# Altium schematic symbol library jlcpcb_2025_04_resistors_extended_1812.schlib: 557 symbols (part 9 of 9)
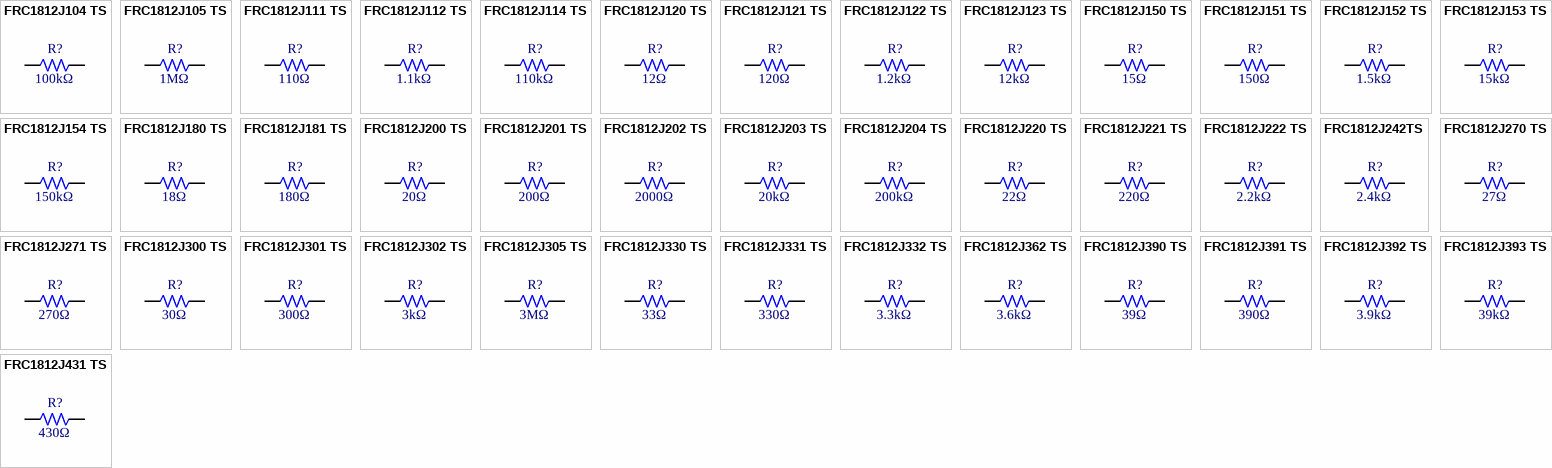
[diagram p21: symbols FRC1812J104 TS to FRC1812J431 TS]

## FRC1812J221 TS
designator R?  Resistance: 220Ω  (hidden comment: *)
Resistor, 220Ω, ±5%, 750mW, 200V, ±100ppm/℃, -55℃~+155℃, SMD 1812; Manufacturer: Uniroyal; Manufacturer Part Number: FRC1812J221 TS; Supplier 1: LCSC; Supplier Part Number 1: C2933938; JLCPCB Part Number: C2933938; Power Rating: 750mW; Category: Resistors; Package Size: 1812; JLCPCB Basic Part: Yes; Tolerance: ±5%; Voltage Rating: 200V; Temperature Coefficient: ±100ppm/℃; Temperature Rating: -55℃~+155℃; ComponentLink1Description: Datasheet; ComponentLink1URL: https://wmsc.lcsc.com/wmsc/upload/file/pdf/v2/lcsc/2308241947_FOJAN-FRC1812J221-TS_C2933938.pdf; ComponentLink2Description: JLCPCB Part URL; ComponentLink2URL: https://jlcpcb.com/partdetail/C2933938
pins: 1, 2
1 alternate drawing of the same symbol

## FRC1812J222 TS
designator R?  Resistance: 2.2kΩ  (hidden comment: *)
Resistor, 2.2kΩ, ±5%, 750mW, 200V, ±100ppm/℃, -55℃~+155℃, SMD 1812; Manufacturer: Uniroyal; Manufacturer Part Number: FRC1812J222 TS; Supplier 1: LCSC; Supplier Part Number 1: C2933939; JLCPCB Part Number: C2933939; Power Rating: 750mW; Category: Resistors; Package Size: 1812; JLCPCB Basic Part: Yes; Tolerance: ±5%; Voltage Rating: 200V; Temperature Coefficient: ±100ppm/℃; Temperature Rating: -55℃~+155℃; ComponentLink1Description: Datasheet; ComponentLink1URL: https://wmsc.lcsc.com/wmsc/upload/file/pdf/v2/lcsc/2308241947_FOJAN-FRC1812J222-TS_C2933939.pdf; ComponentLink2Description: JLCPCB Part URL; ComponentLink2URL: https://jlcpcb.com/partdetail/C2933939
pins: 1, 2
1 alternate drawing of the same symbol

## FRC1812J242TS
designator R?  Resistance: 2.4kΩ  (hidden comment: *)
Resistor, 2.4kΩ, ±5%, 750mW, 200V, ±100ppm/℃, SMD 1812; Manufacturer: Uniroyal; Manufacturer Part Number: FRC1812J242TS; Supplier 1: LCSC; Supplier Part Number 1: C3000697; JLCPCB Part Number: C3000697; Power Rating: 750mW; Category: Resistors; Package Size: 1812; JLCPCB Basic Part: Yes; Tolerance: ±5%; Voltage Rating: 200V; Temperature Coefficient: ±100ppm/℃; ComponentLink1Description: Datasheet; ComponentLink1URL: https://wmsc.lcsc.com/wmsc/upload/file/pdf/v2/lcsc/2308241947_FOJAN-FRC1812J242TS_C3000697.pdf; ComponentLink2Description: JLCPCB Part URL; ComponentLink2URL: https://jlcpcb.com/partdetail/C3000697
pins: 1, 2
1 alternate drawing of the same symbol

## FRC1812J270 TS
designator R?  Resistance: 27Ω  (hidden comment: *)
Resistor, 27Ω, ±5%, 750mW, 200V, ±100ppm/℃, -55℃~+155℃, SMD 1812; Manufacturer: Uniroyal; Manufacturer Part Number: FRC1812J270 TS; Supplier 1: LCSC; Supplier Part Number 1: C2933940; JLCPCB Part Number: C2933940; Power Rating: 750mW; Category: Resistors; Package Size: 1812; JLCPCB Basic Part: Yes; Tolerance: ±5%; Voltage Rating: 200V; Temperature Coefficient: ±100ppm/℃; Temperature Rating: -55℃~+155℃; ComponentLink1Description: Datasheet; ComponentLink1URL: https://wmsc.lcsc.com/wmsc/upload/file/pdf/v2/lcsc/2308241947_FOJAN-FRC1812J270-TS_C2933940.pdf; ComponentLink2Description: JLCPCB Part URL; ComponentLink2URL: https://jlcpcb.com/partdetail/C2933940
pins: 1, 2
1 alternate drawing of the same symbol

## FRC1812J271 TS
designator R?  Resistance: 270Ω  (hidden comment: *)
Resistor, 270Ω, ±5%, 750mW, 200V, ±100ppm/℃, -55℃~+155℃, SMD 1812; Manufacturer: Uniroyal; Manufacturer Part Number: FRC1812J271 TS; Supplier 1: LCSC; Supplier Part Number 1: C2933941; JLCPCB Part Number: C2933941; Power Rating: 750mW; Category: Resistors; Package Size: 1812; JLCPCB Basic Part: Yes; Tolerance: ±5%; Voltage Rating: 200V; Temperature Coefficient: ±100ppm/℃; Temperature Rating: -55℃~+155℃; ComponentLink1Description: Datasheet; ComponentLink1URL: https://wmsc.lcsc.com/wmsc/upload/file/pdf/v2/lcsc/2308241947_FOJAN-FRC1812J271-TS_C2933941.pdf; ComponentLink2Description: JLCPCB Part URL; ComponentLink2URL: https://jlcpcb.com/partdetail/C2933941
pins: 1, 2
1 alternate drawing of the same symbol

## FRC1812J300 TS
designator R?  Resistance: 30Ω  (hidden comment: *)
Resistor, 30Ω, ±5%, 750mW, 200V, ±100ppm/℃, -55℃~+155℃, SMD 1812; Manufacturer: Uniroyal; Manufacturer Part Number: FRC1812J300 TS; Supplier 1: LCSC; Supplier Part Number 1: C2933945; JLCPCB Part Number: C2933945; Power Rating: 750mW; Category: Resistors; Package Size: 1812; JLCPCB Basic Part: Yes; Tolerance: ±5%; Voltage Rating: 200V; Temperature Coefficient: ±100ppm/℃; Temperature Rating: -55℃~+155℃; ComponentLink1Description: Datasheet; ComponentLink1URL: https://wmsc.lcsc.com/wmsc/upload/file/pdf/v2/lcsc/2308241947_FOJAN-FRC1812J300-TS_C2933945.pdf; ComponentLink2Description: JLCPCB Part URL; ComponentLink2URL: https://jlcpcb.com/partdetail/C2933945
pins: 1, 2
1 alternate drawing of the same symbol

## FRC1812J301 TS
designator R?  Resistance: 300Ω  (hidden comment: *)
Resistor, 300Ω, ±5%, 750mW, 200V, ±100ppm/℃, -55℃~+155℃, SMD 1812; Manufacturer: Uniroyal; Manufacturer Part Number: FRC1812J301 TS; Supplier 1: LCSC; Supplier Part Number 1: C2933946; JLCPCB Part Number: C2933946; Power Rating: 750mW; Category: Resistors; Package Size: 1812; JLCPCB Basic Part: Yes; Tolerance: ±5%; Voltage Rating: 200V; Temperature Coefficient: ±100ppm/℃; Temperature Rating: -55℃~+155℃; ComponentLink1Description: Datasheet; ComponentLink1URL: https://wmsc.lcsc.com/wmsc/upload/file/pdf/v2/lcsc/2308241947_FOJAN-FRC1812J301-TS_C2933946.pdf; ComponentLink2Description: JLCPCB Part URL; ComponentLink2URL: https://jlcpcb.com/partdetail/C2933946
pins: 1, 2
1 alternate drawing of the same symbol

## FRC1812J302 TS
designator R?  Resistance: 3kΩ  (hidden comment: *)
Resistor, 3kΩ, ±5%, 750mW, 200V, ±100ppm/℃, -55℃~+155℃, SMD 1812; Manufacturer: Uniroyal; Manufacturer Part Number: FRC1812J302 TS; Supplier 1: LCSC; Supplier Part Number 1: C2933947; JLCPCB Part Number: C2933947; Power Rating: 750mW; Category: Resistors; Package Size: 1812; JLCPCB Basic Part: Yes; Tolerance: ±5%; Voltage Rating: 200V; Temperature Coefficient: ±100ppm/℃; Temperature Rating: -55℃~+155℃; ComponentLink1Description: Datasheet; ComponentLink1URL: https://wmsc.lcsc.com/wmsc/upload/file/pdf/v2/lcsc/2308241947_FOJAN-FRC1812J302-TS_C2933947.pdf; ComponentLink2Description: JLCPCB Part URL; ComponentLink2URL: https://jlcpcb.com/partdetail/C2933947
pins: 1, 2
1 alternate drawing of the same symbol

## FRC1812J305 TS
designator R?  Resistance: 3MΩ  (hidden comment: *)
Resistor, 3MΩ, ±5%, 750mW, 200V, ±100ppm/℃, SMD 1812; Manufacturer: Uniroyal; Manufacturer Part Number: FRC1812J305 TS; Supplier 1: LCSC; Supplier Part Number 1: C3013297; JLCPCB Part Number: C3013297; Power Rating: 750mW; Category: Resistors; Package Size: 1812; JLCPCB Basic Part: Yes; Tolerance: ±5%; Voltage Rating: 200V; Temperature Coefficient: ±100ppm/℃; ComponentLink1Description: Datasheet; ComponentLink1URL: https://wmsc.lcsc.com/wmsc/upload/file/pdf/v2/lcsc/2308241947_FOJAN-FRC1812J305-TS_C3013297.pdf; ComponentLink2Description: JLCPCB Part URL; ComponentLink2URL: https://jlcpcb.com/partdetail/C3013297
pins: 1, 2
1 alternate drawing of the same symbol

## FRC1812J330 TS
designator R?  Resistance: 33Ω  (hidden comment: *)
Resistor, 33Ω, ±5%, 750mW, 200V, ±100ppm/℃, -55℃~+155℃, SMD 1812; Manufacturer: Uniroyal; Manufacturer Part Number: FRC1812J330 TS; Supplier 1: LCSC; Supplier Part Number 1: C2933949; JLCPCB Part Number: C2933949; Power Rating: 750mW; Category: Resistors; Package Size: 1812; JLCPCB Basic Part: Yes; Tolerance: ±5%; Voltage Rating: 200V; Temperature Coefficient: ±100ppm/℃; Temperature Rating: -55℃~+155℃; ComponentLink1Description: Datasheet; ComponentLink1URL: https://wmsc.lcsc.com/wmsc/upload/file/pdf/v2/lcsc/2201251530_FOJAN-FRC1812J330-TS_C2933949.pdf; ComponentLink2Description: JLCPCB Part URL; ComponentLink2URL: https://jlcpcb.com/partdetail/C2933949
pins: 1, 2
1 alternate drawing of the same symbol

## FRC1812J331 TS
designator R?  Resistance: 330Ω  (hidden comment: *)
Resistor, 330Ω, ±5%, 750mW, 200V, ±100ppm/℃, -55℃~+155℃, SMD 1812; Manufacturer: Uniroyal; Manufacturer Part Number: FRC1812J331 TS; Supplier 1: LCSC; Supplier Part Number 1: C2933950; JLCPCB Part Number: C2933950; Power Rating: 750mW; Category: Resistors; Package Size: 1812; JLCPCB Basic Part: Yes; Tolerance: ±5%; Voltage Rating: 200V; Temperature Coefficient: ±100ppm/℃; Temperature Rating: -55℃~+155℃; ComponentLink1Description: Datasheet; ComponentLink1URL: https://wmsc.lcsc.com/wmsc/upload/file/pdf/v2/lcsc/2308241947_FOJAN-FRC1812J331-TS_C2933950.pdf; ComponentLink2Description: JLCPCB Part URL; ComponentLink2URL: https://jlcpcb.com/partdetail/C2933950
pins: 1, 2
1 alternate drawing of the same symbol

## FRC1812J332 TS
designator R?  Resistance: 3.3kΩ  (hidden comment: *)
Resistor, 3.3kΩ, ±5%, 750mW, 200V, ±100ppm/℃, -55℃~+155℃, SMD 1812; Manufacturer: Uniroyal; Manufacturer Part Number: FRC1812J332 TS; Supplier 1: LCSC; Supplier Part Number 1: C2933951; JLCPCB Part Number: C2933951; Power Rating: 750mW; Category: Resistors; Package Size: 1812; JLCPCB Basic Part: Yes; Tolerance: ±5%; Voltage Rating: 200V; Temperature Coefficient: ±100ppm/℃; Temperature Rating: -55℃~+155℃; ComponentLink1Description: Datasheet; ComponentLink1URL: https://wmsc.lcsc.com/wmsc/upload/file/pdf/v2/lcsc/2308241947_FOJAN-FRC1812J332-TS_C2933951.pdf; ComponentLink2Description: JLCPCB Part URL; ComponentLink2URL: https://jlcpcb.com/partdetail/C2933951
pins: 1, 2
1 alternate drawing of the same symbol

## FRC1812J362 TS
designator R?  Resistance: 3.6kΩ  (hidden comment: *)
Resistor, 3.6kΩ, ±5%, 750mW, 200V, ±100ppm/℃, -55℃~+155℃, SMD 1812; Manufacturer: Uniroyal; Manufacturer Part Number: FRC1812J362 TS; Supplier 1: LCSC; Supplier Part Number 1: C2974083; JLCPCB Part Number: C2974083; Power Rating: 750mW; Category: Resistors; Package Size: 1812; JLCPCB Basic Part: Yes; Tolerance: ±5%; Voltage Rating: 200V; Temperature Coefficient: ±100ppm/℃; Temperature Rating: -55℃~+155℃; ComponentLink1Description: Datasheet; ComponentLink1URL: https://wmsc.lcsc.com/wmsc/upload/file/pdf/v2/lcsc/2202151130_FOJAN-FRC1812J362-TS_C2974083.pdf; ComponentLink2Description: JLCPCB Part URL; ComponentLink2URL: https://jlcpcb.com/partdetail/C2974083
pins: 1, 2
1 alternate drawing of the same symbol

## FRC1812J390 TS
designator R?  Resistance: 39Ω  (hidden comment: *)
Resistor, 39Ω, ±5%, 750mW, 200V, ±100ppm/℃, -55℃~+155℃, SMD 1812; Manufacturer: Uniroyal; Manufacturer Part Number: FRC1812J390 TS; Supplier 1: LCSC; Supplier Part Number 1: C2933954; JLCPCB Part Number: C2933954; Power Rating: 750mW; Category: Resistors; Package Size: 1812; JLCPCB Basic Part: Yes; Tolerance: ±5%; Voltage Rating: 200V; Temperature Coefficient: ±100ppm/℃; Temperature Rating: -55℃~+155℃; ComponentLink1Description: Datasheet; ComponentLink1URL: https://wmsc.lcsc.com/wmsc/upload/file/pdf/v2/lcsc/2308241947_FOJAN-FRC1812J390-TS_C2933954.pdf; ComponentLink2Description: JLCPCB Part URL; ComponentLink2URL: https://jlcpcb.com/partdetail/C2933954
pins: 1, 2
1 alternate drawing of the same symbol

## FRC1812J391 TS
designator R?  Resistance: 390Ω  (hidden comment: *)
Resistor, 390Ω, ±5%, 750mW, 200V, ±100ppm/℃, -55℃~+155℃, SMD 1812; Manufacturer: Uniroyal; Manufacturer Part Number: FRC1812J391 TS; Supplier 1: LCSC; Supplier Part Number 1: C2933955; JLCPCB Part Number: C2933955; Power Rating: 750mW; Category: Resistors; Package Size: 1812; JLCPCB Basic Part: Yes; Tolerance: ±5%; Voltage Rating: 200V; Temperature Coefficient: ±100ppm/℃; Temperature Rating: -55℃~+155℃; ComponentLink1Description: Datasheet; ComponentLink1URL: https://wmsc.lcsc.com/wmsc/upload/file/pdf/v2/lcsc/2308241947_FOJAN-FRC1812J391-TS_C2933955.pdf; ComponentLink2Description: JLCPCB Part URL; ComponentLink2URL: https://jlcpcb.com/partdetail/C2933955
pins: 1, 2
1 alternate drawing of the same symbol

## FRC1812J392 TS
designator R?  Resistance: 3.9kΩ  (hidden comment: *)
Resistor, 3.9kΩ, ±5%, 750mW, 200V, ±100ppm/℃, -55℃~+155℃, SMD 1812; Manufacturer: Uniroyal; Manufacturer Part Number: FRC1812J392 TS; Supplier 1: LCSC; Supplier Part Number 1: C2933956; JLCPCB Part Number: C2933956; Power Rating: 750mW; Category: Resistors; Package Size: 1812; JLCPCB Basic Part: Yes; Tolerance: ±5%; Voltage Rating: 200V; Temperature Coefficient: ±100ppm/℃; Temperature Rating: -55℃~+155℃; ComponentLink1Description: Datasheet; ComponentLink1URL: https://wmsc.lcsc.com/wmsc/upload/file/pdf/v2/lcsc/2308241947_FOJAN-FRC1812J392-TS_C2933956.pdf; ComponentLink2Description: JLCPCB Part URL; ComponentLink2URL: https://jlcpcb.com/partdetail/C2933956
pins: 1, 2
1 alternate drawing of the same symbol

## FRC1812J393 TS
designator R?  Resistance: 39kΩ  (hidden comment: *)
Resistor, 39kΩ, ±5%, 750mW, 200V, ±100ppm/℃, -55℃~+155℃, SMD 1812; Manufacturer: Uniroyal; Manufacturer Part Number: FRC1812J393 TS; Supplier 1: LCSC; Supplier Part Number 1: C2960906; JLCPCB Part Number: C2960906; Power Rating: 750mW; Category: Resistors; Package Size: 1812; JLCPCB Basic Part: Yes; Tolerance: ±5%; Voltage Rating: 200V; Temperature Coefficient: ±100ppm/℃; Temperature Rating: -55℃~+155℃; ComponentLink1Description: Datasheet; ComponentLink1URL: https://wmsc.lcsc.com/wmsc/upload/file/pdf/v2/lcsc/2308241947_FOJAN-FRC1812J393-TS_C2960906.pdf; ComponentLink2Description: JLCPCB Part URL; ComponentLink2URL: https://jlcpcb.com/partdetail/C2960906
pins: 1, 2
1 alternate drawing of the same symbol

## FRC1812J431 TS
designator R?  Resistance: 430Ω  (hidden comment: *)
Resistor, 430Ω, ±5%, 750mW, 200V, ±100ppm/℃, -55℃~+155℃, SMD 1812; Manufacturer: Uniroyal; Manufacturer Part Number: FRC1812J431 TS; Supplier 1: LCSC; Supplier Part Number 1: C2933958; JLCPCB Part Number: C2933958; Power Rating: 750mW; Category: Resistors; Package Size: 1812; JLCPCB Basic Part: Yes; Tolerance: ±5%; Voltage Rating: 200V; Temperature Coefficient: ±100ppm/℃; Temperature Rating: -55℃~+155℃; ComponentLink1Description: Datasheet; ComponentLink1URL: https://wmsc.lcsc.com/wmsc/upload/file/pdf/v2/lcsc/2308241947_FOJAN-FRC1812J431-TS_C2933958.pdf; ComponentLink2Description: JLCPCB Part URL; ComponentLink2URL: https://jlcpcb.com/partdetail/C2933958
pins: 1, 2
1 alternate drawing of the same symbol

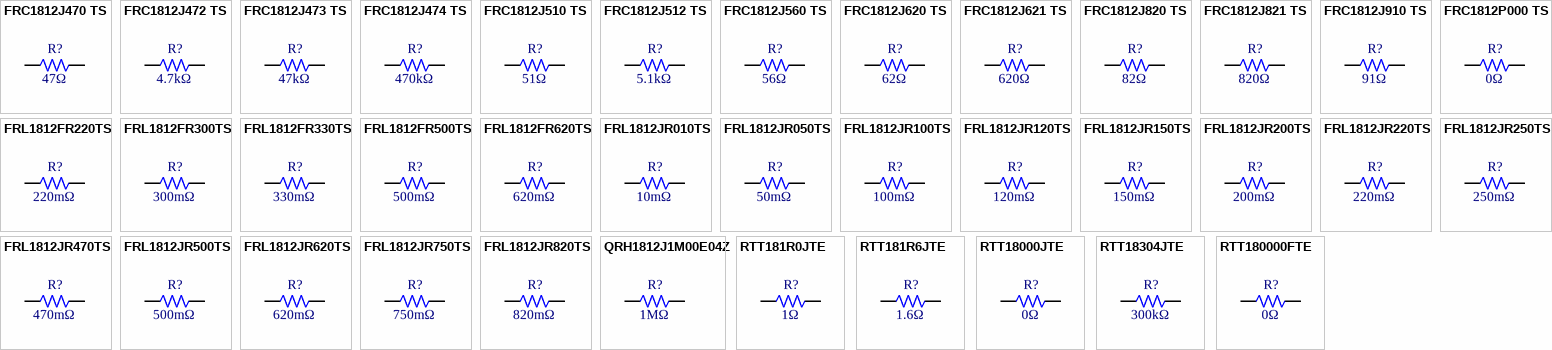
[diagram p13: symbols FRC1812J470 TS to RTT180000FTE]

## FRC1812J470 TS
designator R?  Resistance: 47Ω  (hidden comment: *)
Resistor, 47Ω, ±5%, 750mW, 200V, ±100ppm/℃, -55℃~+155℃, SMD 1812; Manufacturer: Uniroyal; Manufacturer Part Number: FRC1812J470 TS; Supplier 1: LCSC; Supplier Part Number 1: C2933959; JLCPCB Part Number: C2933959; Power Rating: 750mW; Category: Resistors; Package Size: 1812; JLCPCB Basic Part: Yes; Tolerance: ±5%; Voltage Rating: 200V; Temperature Coefficient: ±100ppm/℃; Temperature Rating: -55℃~+155℃; ComponentLink1Description: Datasheet; ComponentLink1URL: https://wmsc.lcsc.com/wmsc/upload/file/pdf/v2/lcsc/2308241947_FOJAN-FRC1812J470-TS_C2933959.pdf; ComponentLink2Description: JLCPCB Part URL; ComponentLink2URL: https://jlcpcb.com/partdetail/C2933959
pins: 1, 2
1 alternate drawing of the same symbol

## FRC1812J472 TS
designator R?  Resistance: 4.7kΩ  (hidden comment: *)
Resistor, 4.7kΩ, ±5%, 750mW, 200V, ±100ppm/℃, -55℃~+155℃, SMD 1812; Manufacturer: Uniroyal; Manufacturer Part Number: FRC1812J472 TS; Supplier 1: LCSC; Supplier Part Number 1: C2933961; JLCPCB Part Number: C2933961; Power Rating: 750mW; Category: Resistors; Package Size: 1812; JLCPCB Basic Part: Yes; Tolerance: ±5%; Voltage Rating: 200V; Temperature Coefficient: ±100ppm/℃; Temperature Rating: -55℃~+155℃; ComponentLink1Description: Datasheet; ComponentLink1URL: https://wmsc.lcsc.com/wmsc/upload/file/pdf/v2/lcsc/2308241947_FOJAN-FRC1812J472-TS_C2933961.pdf; ComponentLink2Description: JLCPCB Part URL; ComponentLink2URL: https://jlcpcb.com/partdetail/C2933961
pins: 1, 2
1 alternate drawing of the same symbol

## FRC1812J473 TS
designator R?  Resistance: 47kΩ  (hidden comment: *)
Resistor, 47kΩ, ±5%, 750mW, 200V, ±100ppm/℃, -55℃~+155℃, SMD 1812; Manufacturer: Uniroyal; Manufacturer Part Number: FRC1812J473 TS; Supplier 1: LCSC; Supplier Part Number 1: C2933962; JLCPCB Part Number: C2933962; Power Rating: 750mW; Category: Resistors; Package Size: 1812; JLCPCB Basic Part: Yes; Tolerance: ±5%; Voltage Rating: 200V; Temperature Coefficient: ±100ppm/℃; Temperature Rating: -55℃~+155℃; ComponentLink1Description: Datasheet; ComponentLink1URL: https://wmsc.lcsc.com/wmsc/upload/file/pdf/v2/lcsc/2308241947_FOJAN-FRC1812J473-TS_C2933962.pdf; ComponentLink2Description: JLCPCB Part URL; ComponentLink2URL: https://jlcpcb.com/partdetail/C2933962
pins: 1, 2
1 alternate drawing of the same symbol

## FRC1812J474 TS
designator R?  Resistance: 470kΩ  (hidden comment: *)
Resistor, 470kΩ, ±5%, 750mW, 200V, ±100ppm/℃, -55℃~+155℃, SMD 1812; Manufacturer: Uniroyal; Manufacturer Part Number: FRC1812J474 TS; Supplier 1: LCSC; Supplier Part Number 1: C2960896; JLCPCB Part Number: C2960896; Power Rating: 750mW; Category: Resistors; Package Size: 1812; JLCPCB Basic Part: Yes; Tolerance: ±5%; Voltage Rating: 200V; Temperature Coefficient: ±100ppm/℃; Temperature Rating: -55℃~+155℃; ComponentLink1Description: Datasheet; ComponentLink1URL: https://wmsc.lcsc.com/wmsc/upload/file/pdf/v2/lcsc/2308241947_FOJAN-FRC1812J474-TS_C2960896.pdf; ComponentLink2Description: JLCPCB Part URL; ComponentLink2URL: https://jlcpcb.com/partdetail/C2960896
pins: 1, 2
1 alternate drawing of the same symbol

## FRC1812J510 TS
designator R?  Resistance: 51Ω  (hidden comment: *)
Resistor, 51Ω, ±5%, 750mW, 200V, ±100ppm/℃, -55℃~+155℃, SMD 1812; Manufacturer: Uniroyal; Manufacturer Part Number: FRC1812J510 TS; Supplier 1: LCSC; Supplier Part Number 1: C2933964; JLCPCB Part Number: C2933964; Power Rating: 750mW; Category: Resistors; Package Size: 1812; JLCPCB Basic Part: Yes; Tolerance: ±5%; Voltage Rating: 200V; Temperature Coefficient: ±100ppm/℃; Temperature Rating: -55℃~+155℃; ComponentLink1Description: Datasheet; ComponentLink1URL: https://wmsc.lcsc.com/wmsc/upload/file/pdf/v2/lcsc/2308241947_FOJAN-FRC1812J510-TS_C2933964.pdf; ComponentLink2Description: JLCPCB Part URL; ComponentLink2URL: https://jlcpcb.com/partdetail/C2933964
pins: 1, 2
1 alternate drawing of the same symbol

## FRC1812J512 TS
designator R?  Resistance: 5.1kΩ  (hidden comment: *)
Resistor, 5.1kΩ, ±5%, 750mW, 200V, ±100ppm/℃, -55℃~+155℃, SMD 1812; Manufacturer: Uniroyal; Manufacturer Part Number: FRC1812J512 TS; Supplier 1: LCSC; Supplier Part Number 1: C2933965; JLCPCB Part Number: C2933965; Power Rating: 750mW; Category: Resistors; Package Size: 1812; JLCPCB Basic Part: Yes; Tolerance: ±5%; Voltage Rating: 200V; Temperature Coefficient: ±100ppm/℃; Temperature Rating: -55℃~+155℃; ComponentLink1Description: Datasheet; ComponentLink1URL: https://wmsc.lcsc.com/wmsc/upload/file/pdf/v2/lcsc/2308241947_FOJAN-FRC1812J512-TS_C2933965.pdf; ComponentLink2Description: JLCPCB Part URL; ComponentLink2URL: https://jlcpcb.com/partdetail/C2933965
pins: 1, 2
1 alternate drawing of the same symbol

## FRC1812J560 TS
designator R?  Resistance: 56Ω  (hidden comment: *)
Resistor, 56Ω, ±5%, 750mW, 200V, ±100ppm/℃, -55℃~+155℃, SMD 1812; Manufacturer: Uniroyal; Manufacturer Part Number: FRC1812J560 TS; Supplier 1: LCSC; Supplier Part Number 1: C2933966; JLCPCB Part Number: C2933966; Power Rating: 750mW; Category: Resistors; Package Size: 1812; JLCPCB Basic Part: Yes; Tolerance: ±5%; Voltage Rating: 200V; Temperature Coefficient: ±100ppm/℃; Temperature Rating: -55℃~+155℃; ComponentLink1Description: Datasheet; ComponentLink1URL: https://wmsc.lcsc.com/wmsc/upload/file/pdf/v2/lcsc/2308241947_FOJAN-FRC1812J560-TS_C2933966.pdf; ComponentLink2Description: JLCPCB Part URL; ComponentLink2URL: https://jlcpcb.com/partdetail/C2933966
pins: 1, 2
1 alternate drawing of the same symbol

## FRC1812J620 TS
designator R?  Resistance: 62Ω  (hidden comment: *)
Resistor, 62Ω, ±5%, 750mW, 200V, ±100ppm/℃, -55℃~+155℃, SMD 1812; Manufacturer: Uniroyal; Manufacturer Part Number: FRC1812J620 TS; Supplier 1: LCSC; Supplier Part Number 1: C2933970; JLCPCB Part Number: C2933970; Power Rating: 750mW; Category: Resistors; Package Size: 1812; JLCPCB Basic Part: Yes; Tolerance: ±5%; Voltage Rating: 200V; Temperature Coefficient: ±100ppm/℃; Temperature Rating: -55℃~+155℃; ComponentLink1Description: Datasheet; ComponentLink1URL: https://wmsc.lcsc.com/wmsc/upload/file/pdf/v2/lcsc/2308241947_FOJAN-FRC1812J620-TS_C2933970.pdf; ComponentLink2Description: JLCPCB Part URL; ComponentLink2URL: https://jlcpcb.com/partdetail/C2933970
pins: 1, 2
1 alternate drawing of the same symbol

## FRC1812J621 TS
designator R?  Resistance: 620Ω  (hidden comment: *)
Resistor, 620Ω, ±5%, 750mW, 200V, ±100ppm/℃, -55℃~+155℃, SMD 1812; Manufacturer: Uniroyal; Manufacturer Part Number: FRC1812J621 TS; Supplier 1: LCSC; Supplier Part Number 1: C2933971; JLCPCB Part Number: C2933971; Power Rating: 750mW; Category: Resistors; Package Size: 1812; JLCPCB Basic Part: Yes; Tolerance: ±5%; Voltage Rating: 200V; Temperature Coefficient: ±100ppm/℃; Temperature Rating: -55℃~+155℃; ComponentLink1Description: Datasheet; ComponentLink1URL: https://wmsc.lcsc.com/wmsc/upload/file/pdf/v2/lcsc/2308241947_FOJAN-FRC1812J621-TS_C2933971.pdf; ComponentLink2Description: JLCPCB Part URL; ComponentLink2URL: https://jlcpcb.com/partdetail/C2933971
pins: 1, 2
1 alternate drawing of the same symbol

## FRC1812J820 TS
designator R?  Resistance: 82Ω  (hidden comment: *)
Resistor, 82Ω, ±5%, 750mW, 200V, ±100ppm/℃, -55℃~+155℃, SMD 1812; Manufacturer: Uniroyal; Manufacturer Part Number: FRC1812J820 TS; Supplier 1: LCSC; Supplier Part Number 1: C2960910; JLCPCB Part Number: C2960910; Power Rating: 750mW; Category: Resistors; Package Size: 1812; JLCPCB Basic Part: Yes; Tolerance: ±5%; Voltage Rating: 200V; Temperature Coefficient: ±100ppm/℃; Temperature Rating: -55℃~+155℃; ComponentLink1Description: Datasheet; ComponentLink1URL: https://wmsc.lcsc.com/wmsc/upload/file/pdf/v2/lcsc/2308241947_FOJAN-FRC1812J820-TS_C2960910.pdf; ComponentLink2Description: JLCPCB Part URL; ComponentLink2URL: https://jlcpcb.com/partdetail/C2960910
pins: 1, 2
1 alternate drawing of the same symbol

## FRC1812J821 TS
designator R?  Resistance: 820Ω  (hidden comment: *)
Resistor, 820Ω, ±5%, 750mW, 200V, ±100ppm/℃, -55℃~+155℃, SMD 1812; Manufacturer: Uniroyal; Manufacturer Part Number: FRC1812J821 TS; Supplier 1: LCSC; Supplier Part Number 1: C2933975; JLCPCB Part Number: C2933975; Power Rating: 750mW; Category: Resistors; Package Size: 1812; JLCPCB Basic Part: Yes; Tolerance: ±5%; Voltage Rating: 200V; Temperature Coefficient: ±100ppm/℃; Temperature Rating: -55℃~+155℃; ComponentLink1Description: Datasheet; ComponentLink1URL: https://wmsc.lcsc.com/wmsc/upload/file/pdf/v2/lcsc/2308241947_FOJAN-FRC1812J821-TS_C2933975.pdf; ComponentLink2Description: JLCPCB Part URL; ComponentLink2URL: https://jlcpcb.com/partdetail/C2933975
pins: 1, 2
1 alternate drawing of the same symbol

## FRC1812J910 TS
designator R?  Resistance: 91Ω  (hidden comment: *)
Resistor, 91Ω, ±5%, 750mW, 200V, ±100ppm/℃, SMD 1812; Manufacturer: Uniroyal; Manufacturer Part Number: FRC1812J910 TS; Supplier 1: LCSC; Supplier Part Number 1: C5713358; JLCPCB Part Number: C5713358; Power Rating: 750mW; Category: Resistors; Package Size: 1812; JLCPCB Basic Part: Yes; Tolerance: ±5%; Voltage Rating: 200V; Temperature Coefficient: ±100ppm/℃; ComponentLink1Description: Datasheet; ComponentLink1URL: https://wmsc.lcsc.com/wmsc/upload/file/pdf/v2/lcsc/2308241947_FOJAN-FRC1812J910-TS_C5713358.pdf; ComponentLink2Description: JLCPCB Part URL; ComponentLink2URL: https://jlcpcb.com/partdetail/C5713358
pins: 1, 2
1 alternate drawing of the same symbol

## FRC1812P000 TS
designator R?  Resistance: 0Ω  (hidden comment: *)
Resistor, 0Ω, -55℃~+155℃, SMD 1812; Manufacturer: Uniroyal; Manufacturer Part Number: FRC1812P000 TS; Supplier 1: LCSC; Supplier Part Number 1: C2907555; JLCPCB Part Number: C2907555; Category: Resistors; Package Size: 1812; JLCPCB Basic Part: Yes; Temperature Rating: -55℃~+155℃; ComponentLink1Description: Datasheet; ComponentLink1URL: https://wmsc.lcsc.com/wmsc/upload/file/pdf/v2/lcsc/2308241947_FOJAN-FRC1812P000-TS_C2907555.pdf; ComponentLink2Description: JLCPCB Part URL; ComponentLink2URL: https://jlcpcb.com/partdetail/C2907555
pins: 1, 2
1 alternate drawing of the same symbol

## FRL1812FR220TS
designator R?  Resistance: 220mΩ  (hidden comment: *)
Resistor, 220mΩ, ±1%, 750mW, ±300ppm/℃, SMD 1812; Manufacturer: Uniroyal; Manufacturer Part Number: FRL1812FR220TS; Supplier 1: LCSC; Supplier Part Number 1: C3000761; JLCPCB Part Number: C3000761; Power Rating: 750mW; Category: Resistors; Package Size: 1812; JLCPCB Basic Part: Yes; Tolerance: ±1%; Temperature Coefficient: ±300ppm/℃; ComponentLink1Description: Datasheet; ComponentLink1URL: https://wmsc.lcsc.com/wmsc/upload/file/pdf/v2/lcsc/2308241947_FOJAN-FRL1812FR220TS_C3000761.pdf; ComponentLink2Description: JLCPCB Part URL; ComponentLink2URL: https://jlcpcb.com/partdetail/C3000761
pins: 1, 2
1 alternate drawing of the same symbol

## FRL1812FR300TS
designator R?  Resistance: 300mΩ  (hidden comment: *)
Resistor, 300mΩ, ±1%, 750mW, ±300ppm/℃, SMD 1812; Manufacturer: Uniroyal; Manufacturer Part Number: FRL1812FR300TS; Supplier 1: LCSC; Supplier Part Number 1: C5159748; JLCPCB Part Number: C5159748; Power Rating: 750mW; Category: Resistors; Package Size: 1812; JLCPCB Basic Part: Yes; Tolerance: ±1%; Temperature Coefficient: ±300ppm/℃; ComponentLink1Description: Datasheet; ComponentLink1URL: https://wmsc.lcsc.com/wmsc/upload/file/pdf/v2/lcsc/2308241947_FOJAN-FRL1812FR300TS_C5159748.pdf; ComponentLink2Description: JLCPCB Part URL; ComponentLink2URL: https://jlcpcb.com/partdetail/C5159748
pins: 1, 2
1 alternate drawing of the same symbol

## FRL1812FR330TS
designator R?  Resistance: 330mΩ  (hidden comment: *)
Resistor, 330mΩ, ±1%, ±300ppm/℃, SMD 1812; Manufacturer: Uniroyal; Manufacturer Part Number: FRL1812FR330TS; Supplier 1: LCSC; Supplier Part Number 1: C3013361; JLCPCB Part Number: C3013361; Category: Resistors; Package Size: 1812; JLCPCB Basic Part: Yes; Tolerance: ±1%; Temperature Coefficient: ±300ppm/℃; ComponentLink1Description: Datasheet; ComponentLink1URL: https://wmsc.lcsc.com/wmsc/upload/file/pdf/v2/lcsc/2308241947_FOJAN-FRL1812FR330TS_C3013361.pdf; ComponentLink2Description: JLCPCB Part URL; ComponentLink2URL: https://jlcpcb.com/partdetail/C3013361
pins: 1, 2
1 alternate drawing of the same symbol

## FRL1812FR500TS
designator R?  Resistance: 500mΩ  (hidden comment: *)
Resistor, 500mΩ, ±1%, 750mW, 200V, ±300ppm/℃, -55℃~+155℃, SMD 1812; Manufacturer: Uniroyal; Manufacturer Part Number: FRL1812FR500TS; Supplier 1: LCSC; Supplier Part Number 1: C2934342; JLCPCB Part Number: C2934342; Power Rating: 750mW; Category: Resistors; Package Size: 1812; JLCPCB Basic Part: Yes; Tolerance: ±1%; Voltage Rating: 200V; Temperature Coefficient: ±300ppm/℃; Temperature Rating: -55℃~+155℃; ComponentLink1Description: Datasheet; ComponentLink1URL: https://wmsc.lcsc.com/wmsc/upload/file/pdf/v2/lcsc/2308241947_FOJAN-FRL1812FR500TS_C2934342.pdf; ComponentLink2Description: JLCPCB Part URL; ComponentLink2URL: https://jlcpcb.com/partdetail/C2934342
pins: 1, 2
1 alternate drawing of the same symbol

## FRL1812FR620TS
designator R?  Resistance: 620mΩ  (hidden comment: *)
Resistor, 620mΩ, ±1%, 750mW, 200V, ±200ppm/℃, -55℃~+155℃, SMD 1812; Manufacturer: Uniroyal; Manufacturer Part Number: FRL1812FR620TS; Supplier 1: LCSC; Supplier Part Number 1: C2934343; JLCPCB Part Number: C2934343; Power Rating: 750mW; Category: Resistors; Package Size: 1812; JLCPCB Basic Part: Yes; Tolerance: ±1%; Voltage Rating: 200V; Temperature Coefficient: ±200ppm/℃; Temperature Rating: -55℃~+155℃; ComponentLink1Description: Datasheet; ComponentLink1URL: https://wmsc.lcsc.com/wmsc/upload/file/pdf/v2/lcsc/2308241947_FOJAN-FRL1812FR620TS_C2934343.pdf; ComponentLink2Description: JLCPCB Part URL; ComponentLink2URL: https://jlcpcb.com/partdetail/C2934343
pins: 1, 2
1 alternate drawing of the same symbol

## FRL1812JR010TS
designator R?  Resistance: 10mΩ  (hidden comment: *)
Resistor, 10mΩ, ±5%, 750mW, SMD 1812; Manufacturer: Uniroyal; Manufacturer Part Number: FRL1812JR010TS; Supplier 1: LCSC; Supplier Part Number 1: C7467399; JLCPCB Part Number: C7467399; Power Rating: 750mW; Category: Resistors; Package Size: 1812; JLCPCB Basic Part: Yes; Tolerance: ±5%; ComponentLink1Description: Datasheet; ComponentLink1URL: https://wmsc.lcsc.com/wmsc/upload/file/pdf/v2/lcsc/2308241947_FOJAN-FRL1812JR010TS_C7467399.pdf; ComponentLink2Description: JLCPCB Part URL; ComponentLink2URL: https://jlcpcb.com/partdetail/C7467399
pins: 1, 2
1 alternate drawing of the same symbol

## FRL1812JR050TS
designator R?  Resistance: 50mΩ  (hidden comment: *)
Resistor, 50mΩ, ±5%, SMD 1812; Manufacturer: Uniroyal; Manufacturer Part Number: FRL1812JR050TS; Supplier 1: LCSC; Supplier Part Number 1: C3013363; JLCPCB Part Number: C3013363; Category: Resistors; Package Size: 1812; JLCPCB Basic Part: Yes; Tolerance: ±5%; ComponentLink1Description: Datasheet; ComponentLink1URL: https://wmsc.lcsc.com/wmsc/upload/file/pdf/v2/lcsc/2308241947_FOJAN-FRL1812JR050TS_C3013363.pdf; ComponentLink2Description: JLCPCB Part URL; ComponentLink2URL: https://jlcpcb.com/partdetail/C3013363
pins: 1, 2
1 alternate drawing of the same symbol

## FRL1812JR100TS
designator R?  Resistance: 100mΩ  (hidden comment: *)
Resistor, 100mΩ, ±5%, 750mW, 200V, ±600ppm/℃, -55℃~+155℃, SMD 1812; Manufacturer: Uniroyal; Manufacturer Part Number: FRL1812JR100TS; Supplier 1: LCSC; Supplier Part Number 1: C2960717; JLCPCB Part Number: C2960717; Power Rating: 750mW; Category: Resistors; Package Size: 1812; JLCPCB Basic Part: Yes; Tolerance: ±5%; Voltage Rating: 200V; Temperature Coefficient: ±600ppm/℃; Temperature Rating: -55℃~+155℃; ComponentLink1Description: Datasheet; ComponentLink1URL: https://wmsc.lcsc.com/wmsc/upload/file/pdf/v2/lcsc/2201181800_FOJAN-FRL1812JR100TS_C2960717.pdf; ComponentLink2Description: JLCPCB Part URL; ComponentLink2URL: https://jlcpcb.com/partdetail/C2960717
pins: 1, 2
1 alternate drawing of the same symbol

## FRL1812JR120TS
designator R?  Resistance: 120mΩ  (hidden comment: *)
Resistor, 120mΩ, ±5%, 750mW, 200V, ±600ppm/℃, -55℃~+155℃, SMD 1812; Manufacturer: Uniroyal; Manufacturer Part Number: FRL1812JR120TS; Supplier 1: LCSC; Supplier Part Number 1: C2934344; JLCPCB Part Number: C2934344; Power Rating: 750mW; Category: Resistors; Package Size: 1812; JLCPCB Basic Part: Yes; Tolerance: ±5%; Voltage Rating: 200V; Temperature Coefficient: ±600ppm/℃; Temperature Rating: -55℃~+155℃; ComponentLink1Description: Datasheet; ComponentLink1URL: https://wmsc.lcsc.com/wmsc/upload/file/pdf/v2/lcsc/2308241947_FOJAN-FRL1812JR120TS_C2934344.pdf; ComponentLink2Description: JLCPCB Part URL; ComponentLink2URL: https://jlcpcb.com/partdetail/C2934344
pins: 1, 2
1 alternate drawing of the same symbol

## FRL1812JR150TS
designator R?  Resistance: 150mΩ  (hidden comment: *)
Resistor, 150mΩ, ±5%, 750mW, 200V, ±600ppm/℃, -55℃~+155℃, SMD 1812; Manufacturer: Uniroyal; Manufacturer Part Number: FRL1812JR150TS; Supplier 1: LCSC; Supplier Part Number 1: C2934345; JLCPCB Part Number: C2934345; Power Rating: 750mW; Category: Resistors; Package Size: 1812; JLCPCB Basic Part: Yes; Tolerance: ±5%; Voltage Rating: 200V; Temperature Coefficient: ±600ppm/℃; Temperature Rating: -55℃~+155℃; ComponentLink1Description: Datasheet; ComponentLink1URL: https://wmsc.lcsc.com/wmsc/upload/file/pdf/v2/lcsc/2308241947_FOJAN-FRL1812JR150TS_C2934345.pdf; ComponentLink2Description: JLCPCB Part URL; ComponentLink2URL: https://jlcpcb.com/partdetail/C2934345
pins: 1, 2
1 alternate drawing of the same symbol

## FRL1812JR200TS
designator R?  Resistance: 200mΩ  (hidden comment: *)
Resistor, 200mΩ, ±5%, 750mW, 200V, ±600ppm/℃, -55℃~+155℃, SMD 1812; Manufacturer: Uniroyal; Manufacturer Part Number: FRL1812JR200TS; Supplier 1: LCSC; Supplier Part Number 1: C2930452; JLCPCB Part Number: C2930452; Power Rating: 750mW; Category: Resistors; Package Size: 1812; JLCPCB Basic Part: Yes; Tolerance: ±5%; Voltage Rating: 200V; Temperature Coefficient: ±600ppm/℃; Temperature Rating: -55℃~+155℃; ComponentLink1Description: Datasheet; ComponentLink1URL: https://wmsc.lcsc.com/wmsc/upload/file/pdf/v2/lcsc/2308241947_FOJAN-FRL1812JR200TS_C2930452.pdf; ComponentLink2Description: JLCPCB Part URL; ComponentLink2URL: https://jlcpcb.com/partdetail/C2930452
pins: 1, 2
1 alternate drawing of the same symbol

## FRL1812JR220TS
designator R?  Resistance: 220mΩ  (hidden comment: *)
Resistor, 220mΩ, ±5%, 750mW, 200V, ±300ppm/℃, -55℃~+155℃, SMD 1812; Manufacturer: Uniroyal; Manufacturer Part Number: FRL1812JR220TS; Supplier 1: LCSC; Supplier Part Number 1: C2934347; JLCPCB Part Number: C2934347; Power Rating: 750mW; Category: Resistors; Package Size: 1812; JLCPCB Basic Part: Yes; Tolerance: ±5%; Voltage Rating: 200V; Temperature Coefficient: ±300ppm/℃; Temperature Rating: -55℃~+155℃; ComponentLink1Description: Datasheet; ComponentLink1URL: https://wmsc.lcsc.com/wmsc/upload/file/pdf/v2/lcsc/2308241947_FOJAN-FRL1812JR220TS_C2934347.pdf; ComponentLink2Description: JLCPCB Part URL; ComponentLink2URL: https://jlcpcb.com/partdetail/C2934347
pins: 1, 2
1 alternate drawing of the same symbol

## FRL1812JR250TS
designator R?  Resistance: 250mΩ  (hidden comment: *)
Resistor, 250mΩ, ±5%, 750mW, 200V, ±200ppm/℃, -55℃~+155℃, SMD 1812; Manufacturer: Uniroyal; Manufacturer Part Number: FRL1812JR250TS; Supplier 1: LCSC; Supplier Part Number 1: C2934348; JLCPCB Part Number: C2934348; Power Rating: 750mW; Category: Resistors; Package Size: 1812; JLCPCB Basic Part: Yes; Tolerance: ±5%; Voltage Rating: 200V; Temperature Coefficient: ±200ppm/℃; Temperature Rating: -55℃~+155℃; ComponentLink1Description: Datasheet; ComponentLink1URL: https://wmsc.lcsc.com/wmsc/upload/file/pdf/v2/lcsc/2308241947_FOJAN-FRL1812JR250TS_C2934348.pdf; ComponentLink2Description: JLCPCB Part URL; ComponentLink2URL: https://jlcpcb.com/partdetail/C2934348
pins: 1, 2
1 alternate drawing of the same symbol

## FRL1812JR470TS
designator R?  Resistance: 470mΩ  (hidden comment: *)
Resistor, 470mΩ, ±5%, 750mW, ±300ppm/℃, SMD 1812; Manufacturer: Uniroyal; Manufacturer Part Number: FRL1812JR470TS; Supplier 1: LCSC; Supplier Part Number 1: C3013365; JLCPCB Part Number: C3013365; Power Rating: 750mW; Category: Resistors; Package Size: 1812; JLCPCB Basic Part: Yes; Tolerance: ±5%; Temperature Coefficient: ±300ppm/℃; ComponentLink1Description: Datasheet; ComponentLink1URL: https://wmsc.lcsc.com/wmsc/upload/file/pdf/v2/lcsc/2308241947_FOJAN-FRL1812JR470TS_C3013365.pdf; ComponentLink2Description: JLCPCB Part URL; ComponentLink2URL: https://jlcpcb.com/partdetail/C3013365
pins: 1, 2
1 alternate drawing of the same symbol

## FRL1812JR500TS
designator R?  Resistance: 500mΩ  (hidden comment: *)
Resistor, 500mΩ, ±5%, 750mW, ±300ppm/℃, SMD 1812; Manufacturer: Uniroyal; Manufacturer Part Number: FRL1812JR500TS; Supplier 1: LCSC; Supplier Part Number 1: C3000571; JLCPCB Part Number: C3000571; Power Rating: 750mW; Category: Resistors; Package Size: 1812; JLCPCB Basic Part: Yes; Tolerance: ±5%; Temperature Coefficient: ±300ppm/℃; ComponentLink1Description: Datasheet; ComponentLink1URL: https://wmsc.lcsc.com/wmsc/upload/file/pdf/v2/lcsc/2308241947_FOJAN-FRL1812JR500TS_C3000571.pdf; ComponentLink2Description: JLCPCB Part URL; ComponentLink2URL: https://jlcpcb.com/partdetail/C3000571
pins: 1, 2
1 alternate drawing of the same symbol

## FRL1812JR620TS
designator R?  Resistance: 620mΩ  (hidden comment: *)
Resistor, 620mΩ, ±5%, 750mW, 200V, ±200ppm/℃, -55℃~+155℃, SMD 1812; Manufacturer: Uniroyal; Manufacturer Part Number: FRL1812JR620TS; Supplier 1: LCSC; Supplier Part Number 1: C2934349; JLCPCB Part Number: C2934349; Power Rating: 750mW; Category: Resistors; Package Size: 1812; JLCPCB Basic Part: Yes; Tolerance: ±5%; Voltage Rating: 200V; Temperature Coefficient: ±200ppm/℃; Temperature Rating: -55℃~+155℃; ComponentLink1Description: Datasheet; ComponentLink1URL: https://wmsc.lcsc.com/wmsc/upload/file/pdf/v2/lcsc/2308241947_FOJAN-FRL1812JR620TS_C2934349.pdf; ComponentLink2Description: JLCPCB Part URL; ComponentLink2URL: https://jlcpcb.com/partdetail/C2934349
pins: 1, 2
1 alternate drawing of the same symbol

## FRL1812JR750TS
designator R?  Resistance: 750mΩ  (hidden comment: *)
Resistor, 750mΩ, ±5%, 750mW, ±200ppm/℃, SMD 1812; Manufacturer: Uniroyal; Manufacturer Part Number: FRL1812JR750TS; Supplier 1: LCSC; Supplier Part Number 1: C3000787; JLCPCB Part Number: C3000787; Power Rating: 750mW; Category: Resistors; Package Size: 1812; JLCPCB Basic Part: Yes; Tolerance: ±5%; Temperature Coefficient: ±200ppm/℃; ComponentLink1Description: Datasheet; ComponentLink1URL: https://wmsc.lcsc.com/wmsc/upload/file/pdf/v2/lcsc/2308241947_FOJAN-FRL1812JR750TS_C3000787.pdf; ComponentLink2Description: JLCPCB Part URL; ComponentLink2URL: https://jlcpcb.com/partdetail/C3000787
pins: 1, 2
1 alternate drawing of the same symbol

## FRL1812JR820TS
designator R?  Resistance: 820mΩ  (hidden comment: *)
Resistor, 820mΩ, ±5%, 750mW, 200V, ±200ppm/℃, -55℃~+155℃, SMD 1812; Manufacturer: Uniroyal; Manufacturer Part Number: FRL1812JR820TS; Supplier 1: LCSC; Supplier Part Number 1: C2934350; JLCPCB Part Number: C2934350; Power Rating: 750mW; Category: Resistors; Package Size: 1812; JLCPCB Basic Part: Yes; Tolerance: ±5%; Voltage Rating: 200V; Temperature Coefficient: ±200ppm/℃; Temperature Rating: -55℃~+155℃; ComponentLink1Description: Datasheet; ComponentLink1URL: https://wmsc.lcsc.com/wmsc/upload/file/pdf/v2/lcsc/2308241947_FOJAN-FRL1812JR820TS_C2934350.pdf; ComponentLink2Description: JLCPCB Part URL; ComponentLink2URL: https://jlcpcb.com/partdetail/C2934350
pins: 1, 2
1 alternate drawing of the same symbol

## QRH1812J1M00E04Z
designator R?  Resistance: 1MΩ  (hidden comment: *)
Resistor, 1MΩ, ±5%, 1W, ±100ppm/℃, SMD 1812; Manufacturer: Uniroyal; Manufacturer Part Number: QRH1812J1M00E04Z; Supplier 1: LCSC; Supplier Part Number 1: C176275; JLCPCB Part Number: C176275; Power Rating: 1W; Category: Resistors; Package Size: 1812; JLCPCB Basic Part: Yes; Tolerance: ±5%; Temperature Coefficient: ±100ppm/℃; ComponentLink1Description: Datasheet; ComponentLink1URL: https://wmsc.lcsc.com/wmsc/upload/file/pdf/v2/lcsc/1811141137_Ever-Ohms-Tech-QRH1812J1M00E04Z_C176275.pdf; ComponentLink2Description: JLCPCB Part URL; ComponentLink2URL: https://jlcpcb.com/partdetail/C176275
pins: 1, 2
1 alternate drawing of the same symbol

## RTT181R0JTE
designator R?  Resistance: 1Ω  (hidden comment: *)
Resistor, 1Ω, ±5%, 750mW, 200V, ±200ppm/℃, -55℃~+155℃, SMD 1812; Manufacturer: Uniroyal; Manufacturer Part Number: RTT181R0JTE; Supplier 1: LCSC; Supplier Part Number 1: C525716; JLCPCB Part Number: C525716; Power Rating: 750mW; Category: Resistors; Package Size: 1812; JLCPCB Basic Part: Yes; Tolerance: ±5%; Voltage Rating: 200V; Temperature Coefficient: ±200ppm/℃; Temperature Rating: -55℃~+155℃; ComponentLink1Description: Datasheet; ComponentLink1URL: https://wmsc.lcsc.com/wmsc/upload/file/pdf/v2/lcsc/2304140030_RALEC-RTT181R0JTE_C525716.pdf; ComponentLink2Description: JLCPCB Part URL; ComponentLink2URL: https://jlcpcb.com/partdetail/C525716
pins: 1, 2
1 alternate drawing of the same symbol

## RTT181R6JTE
designator R?  Resistance: 1.6Ω  (hidden comment: *)
Resistor, 1.6Ω, ±5%, 750mW, 200V, ±200ppm/℃, -55℃~+155℃, SMD 1812; Manufacturer: Uniroyal; Manufacturer Part Number: RTT181R6JTE; Supplier 1: LCSC; Supplier Part Number 1: C2991268; JLCPCB Part Number: C2991268; Power Rating: 750mW; Category: Resistors; Package Size: 1812; JLCPCB Basic Part: Yes; Tolerance: ±5%; Voltage Rating: 200V; Temperature Coefficient: ±200ppm/℃; Temperature Rating: -55℃~+155℃; ComponentLink1Description: Datasheet; ComponentLink1URL: https://wmsc.lcsc.com/wmsc/upload/file/pdf/v2/lcsc/2204082230_RALEC-RTT181R6JTE_C2991268.pdf; ComponentLink2Description: JLCPCB Part URL; ComponentLink2URL: https://jlcpcb.com/partdetail/C2991268
pins: 1, 2
1 alternate drawing of the same symbol

## RTT18000JTE
designator R?  Resistance: 0Ω  (hidden comment: *)
Resistor, 0Ω, ±5%, 750mW, 200V, -55℃~+155℃, SMD 1812; Manufacturer: Uniroyal; Manufacturer Part Number: RTT18000JTE; Supplier 1: LCSC; Supplier Part Number 1: C305063; JLCPCB Part Number: C305063; Power Rating: 750mW; Category: Resistors; Package Size: 1812; JLCPCB Basic Part: Yes; Tolerance: ±5%; Voltage Rating: 200V; Temperature Rating: -55℃~+155℃; ComponentLink1Description: Datasheet; ComponentLink1URL: https://wmsc.lcsc.com/wmsc/upload/file/pdf/v2/lcsc/2304140030_RALEC-RTT18000JTE_C305063.pdf; ComponentLink2Description: JLCPCB Part URL; ComponentLink2URL: https://jlcpcb.com/partdetail/C305063
pins: 1, 2
1 alternate drawing of the same symbol

## RTT18304JTE
designator R?  Resistance: 300kΩ  (hidden comment: *)
Resistor, 300kΩ, ±5%, 750mW, 200V, ±100ppm/℃, -55℃~+155℃, SMD 1812; Manufacturer: Uniroyal; Manufacturer Part Number: RTT18304JTE; Supplier 1: LCSC; Supplier Part Number 1: C525717; JLCPCB Part Number: C525717; Power Rating: 750mW; Category: Resistors; Package Size: 1812; JLCPCB Basic Part: Yes; Tolerance: ±5%; Voltage Rating: 200V; Temperature Coefficient: ±100ppm/℃; Temperature Rating: -55℃~+155℃; ComponentLink1Description: Datasheet; ComponentLink1URL: https://wmsc.lcsc.com/wmsc/upload/file/pdf/v2/lcsc/2304140030_RALEC-RTT18304JTE_C525717.pdf; ComponentLink2Description: JLCPCB Part URL; ComponentLink2URL: https://jlcpcb.com/partdetail/C525717
pins: 1, 2
1 alternate drawing of the same symbol

## RTT180000FTE
designator R?  Resistance: 0Ω  (hidden comment: *)
Resistor, 0Ω, ±1%, 750mW, 200V, ±200ppm/℃, -55℃~+155℃, SMD 1812; Manufacturer: Uniroyal; Manufacturer Part Number: RTT180000FTE; Supplier 1: LCSC; Supplier Part Number 1: C2991330; JLCPCB Part Number: C2991330; Power Rating: 750mW; Category: Resistors; Package Size: 1812; JLCPCB Basic Part: Yes; Tolerance: ±1%; Voltage Rating: 200V; Temperature Coefficient: ±200ppm/℃; Temperature Rating: -55℃~+155℃; ComponentLink1Description: Datasheet; ComponentLink1URL: https://wmsc.lcsc.com/wmsc/upload/file/pdf/v2/lcsc/2204082330_RALEC-RTT180000FTE_C2991330.pdf; ComponentLink2Description: JLCPCB Part URL; ComponentLink2URL: https://jlcpcb.com/partdetail/C2991330
pins: 1, 2
1 alternate drawing of the same symbol